# Altium schematic symbol library lt8653sev_pbf.SchLib: 1 symbol
Pins are listed as number, name and electrical type; pins without a type are passive.

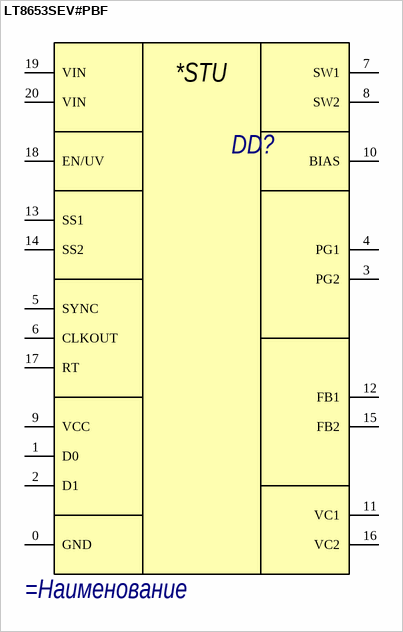
[diagram p0: symbol LT8653SEV#PBF]

## LT8653SEV#PBF
designator DD?
=Описание
pins: 0 GND, 1 D0, 2 D1, 3 PG2, 4 PG1, 5 SYNC, 6 CLKOUT, 7 SW1, 8 SW2, 9 VCC, 10 BIAS, 11 VC1, 12 FB1, 13 SS1, 14 SS2, 15 FB2, 16 VC2, 17 RT, 18 EN/UV, 19 VIN, 20 VIN
text: *STU